# Altium footprint library 7.接插件封装.PcbLib: 201 footprints (part 12 of 13)
Each footprint in its own frame and in the unit in brackets; x right, y up, seen from the top. Pads: shape width x height; smd on the part's side, far side on the other; paste and mask are expansions set on the pad; w line width, h text height; cw(c..) or ccw(c..) is an arc to the next point about the centre after c.
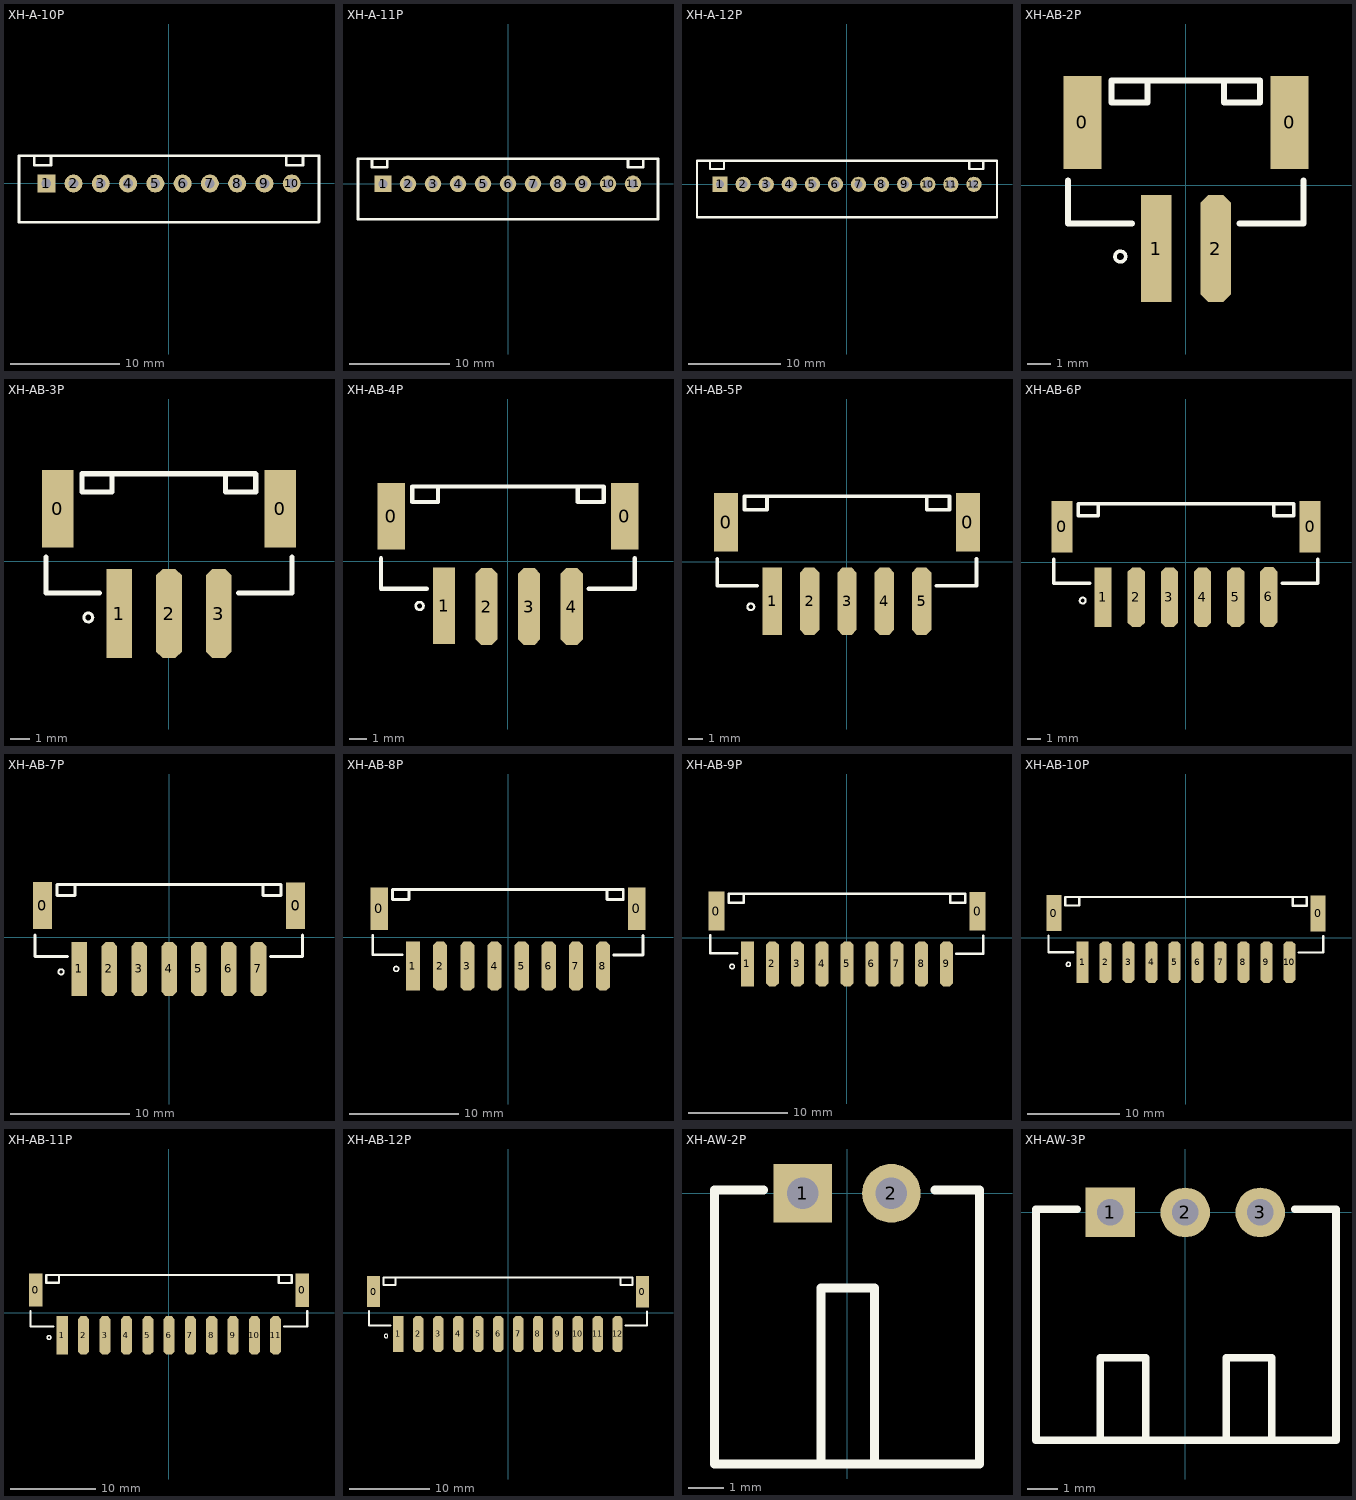
[diagram p11: the footprints below, top view; thin cyan lines are the x and y axes]

## XH-A-10P [mil]
height 275.59
pads (10):
  rect 65x65 hole 35: 1(-442.91,0)
  round 65 hole 35: 2(-344.49,0) 3(-246.06,0) 4(-147.64,0) 5(-49.21,0) 6(49.21,0) 7(147.64,0) 8(246.06,0) 9(344.49,0) 10(442.91,0)
Top Overlay:
  lines w10: -486.18,96.18 -486.18,65.31 -426.18,65.31 -426.18,96.18 ; 423.39,96.18 423.39,65.31 483.39,65.31 483.39,96.18 ; 541.21,100 -541.34,100 -541.34,-140 540.21,-140 541.46,-138.75 541.46,100

## XH-A-11P [mil]
height 275.59
pads (11):
  rect 65x65 hole 35: 1(-492.13,0)
  round 65 hole 35: 2(-393.7,0) 3(-295.28,0) 4(-196.85,0) 5(-98.43,0) 6(0,0) 7(98.43,0) 8(196.85,0) 9(295.28,0) 10(393.7,0) 11(492.13,0)
Top Overlay:
  lines w10: -535.39,96.18 -535.39,65.31 -475.39,65.31 -475.39,96.18 ; 472.48,96.18 472.48,65.31 532.48,65.31 532.48,96.18 ; -590.55,-140 590.55,-140 590.55,100 -590.55,100 -590.55,-140

## XH-A-12P [mil]
height 275.59
pads (12):
  rect 65x65 hole 35: 1(-541.34,0)
  round 65 hole 35: 2(-442.91,0) 3(-344.49,0) 4(-246.06,0) 5(-147.64,0) 6(-49.21,0) 7(49.21,0) 8(147.64,0) 9(246.06,0) 10(344.49,0) 11(442.91,0) 12(541.34,0)
Top Overlay:
  lines w10: -584.61,96.18 -584.61,65.31 -524.61,65.31 -524.61,96.18 ; 521.69,96.18 521.69,65.31 581.69,65.31 581.69,96.18 ; -639.76,-140 639.79,-140 639.79,100 -639.76,100 -639.76,-140

## XH-AB-2P [mm]
height 6
pads (4):
  rect 1.6x3.9 smd: 0(-4.35,2.65) 0(4.35,2.65)
  rect 1.3x4.5 smd: 1(-1.25,-2.65)
  oct 1.3x4.5 smd: 2(1.25,-2.65)
Top Overlay:
  circle w0.15: c-2.759,-2.987 r0.224
  lines w0.254: -4.95,0.2 -4.95,-1.6 -2.259,-1.6 ; -1.609,4.391 -1.609,3.491 -3.125,3.491 -3.125,4.4 3.107,4.4 3.116,4.391 3.116,3.491 1.6,3.491 1.6,4.4 ; 2.241,-1.6 4.932,-1.6 4.932,0.2

## XH-AB-3P [mm]
height 6
pads (5):
  rect 1.6x3.9 smd: 0(-5.6,2.642) 0(5.6,2.642)
  rect 1.3x4.5 smd: 1(-2.5,-2.642)
  oct 1.3x4.5 smd: 2(0,-2.642) 3(2.5,-2.642)
Top Overlay:
  circle w0.15: c-4.06,-2.843 r0.224
  lines w0.254: -6.2,0.192 -6.2,-1.608 -3.509,-1.608 ; -2.859,4.383 -2.859,3.483 -4.375,3.483 -4.375,4.392 4.357,4.392 4.366,4.383 4.366,3.483 2.85,3.483 2.85,4.392 ; 3.491,-1.608 6.182,-1.608 6.182,0.192

## XH-AB-4P [mm]
height 6
pads (6):
  rect 1.6x3.9 smd: 0(-6.85,2.646) 0(6.85,2.646)
  rect 1.3x4.5 smd: 1(-3.75,-2.603)
  oct 1.3x4.5 smd: 2(-1.259,-2.646) 3(1.241,-2.646) 4(3.741,-2.646)
Top Overlay:
  circle w0.15: c-5.183,-2.61 r0.224
  lines w0.254: -7.45,0.196 -7.45,-1.604 -4.759,-1.604 ; -4.109,4.387 -4.109,3.487 -5.625,3.487 -5.625,4.396 5.6,4.396 ; 4.1,4.396 4.1,3.487 5.616,3.487 5.616,4.387 5.607,4.396 ; 4.741,-1.604 7.432,-1.604 7.432,0.196

## XH-AB-5P [mm]
height 6
pads (7):
  rect 1.6x3.9 smd: 0(-8.1,2.642) 0(8.1,2.642)
  rect 1.3x4.5 smd: 1(-5,-2.642)
  oct 1.3x4.5 smd: 2(-2.5,-2.642) 3(0,-2.642) 4(2.5,-2.642) 5(5,-2.642)
Top Overlay:
  circle w0.15: c-6.445,-3.016 r0.224
  lines w0.254: -8.7,0.192 -8.7,-1.608 -6.009,-1.608 ; -5.359,4.383 -5.359,3.483 -6.875,3.483 -6.875,4.392 6.857,4.392 ; 5.35,4.392 5.35,3.483 6.866,3.483 6.866,4.383 ; 5.991,-1.608 8.682,-1.608 8.682,0.192 ; 6.857,4.392 6.857,4.392

## XH-AB-6P [mm]
height 6
pads (8):
  rect 1.6x3.9 smd: 0(-9.35,2.65) 0(9.35,2.65)
  rect 1.3x4.5 smd: 1(-6.25,-2.65)
  oct 1.3x4.5 smd: 2(-3.75,-2.65) 3(-1.25,-2.65) 4(1.25,-2.65) 5(3.75,-2.65) 6(6.239,-2.633)
Top Overlay:
  circle w0.15: c-7.784,-2.902 r0.224
  lines w0.254: -9.95,0.2 -9.95,-1.6 -7.259,-1.6 ; -6.609,4.391 -6.609,3.491 -8.125,3.491 -8.125,4.4 8.1,4.4 ; 6.6,4.4 6.6,3.491 8.116,3.491 8.116,4.391 ; 7.241,-1.6 9.932,-1.6 9.932,0.2 ; 8.107,4.4 8.107,4.4

## XH-AB-7P [mm]
pads (9):
  rect 1.6x3.9 smd: 0(-10.595,2.65) 0(10.595,2.633)
  rect 1.3x4.5 smd: 1(-7.495,-2.65)
  oct 1.3x4.5 smd: 2(-4.995,-2.65) 3(-2.495,-2.65) 4(0.005,-2.65) 5(2.505,-2.65) 6(4.995,-2.65) 7(7.484,-2.65)
Top Overlay:
  circle w0.15: c-9.029,-2.902 r0.224
  lines w0.254: -11.195,0.2 -11.195,-1.6 -8.503,-1.6 ; -7.854,4.391 -7.854,3.491 -9.37,3.491 -9.37,4.4 9.361,4.4 ; 7.845,4.383 7.845,3.475 9.361,3.475 9.361,4.375 ; 8.486,-1.617 11.177,-1.617 11.177,0.183 ; 9.352,4.383 9.352,4.383

## XH-AB-8P [mm]
pads (10):
  rect 1.6x3.9 smd: 0(-11.839,2.65) 0(11.839,2.633)
  rect 1.3x4.5 smd: 1(-8.739,-2.65)
  oct 1.3x4.5 smd: 2(-6.239,-2.65) 3(-3.739,-2.65) 4(-1.239,-2.65) 5(1.261,-2.65) 6(3.75,-2.65) 7(6.239,-2.65) 8(8.728,-2.65)
Top Overlay:
  circle w0.15: c-10.274,-2.902 r0.224
  lines w0.254: -12.439,0.2 -12.439,-1.6 -9.748,-1.6 ; -9.098,4.391 -9.098,3.491 -10.614,3.491 -10.614,4.4 10.605,4.4 ; 9.089,4.383 9.089,3.475 10.605,3.475 10.605,4.375 ; 9.73,-1.617 12.421,-1.617 12.421,0.183 ; 10.597,4.383 10.597,4.383

## XH-AB-9P [mm]
pads (11):
  rect 1.6x3.9 smd: 0(-13.084,2.65) 0(13.084,2.633)
  rect 1.3x4.5 smd: 1(-9.984,-2.65)
  oct 1.3x4.5 smd: 2(-7.484,-2.65) 3(-4.984,-2.65) 4(-2.484,-2.65) 5(0.016,-2.65) 6(2.505,-2.65) 7(4.995,-2.65) 8(7.484,-2.65) 9(9.973,-2.65)
Top Overlay:
  circle w0.15: c-11.518,-2.902 r0.224
  lines w0.254: -13.684,0.2 -13.684,-1.6 -10.993,-1.6 ; -10.343,4.391 -10.343,3.491 -11.859,3.491 -11.859,4.4 11.85,4.4 ; 10.334,4.383 10.334,3.475 11.85,3.475 11.85,4.375 ; 10.975,-1.617 13.666,-1.617 13.666,0.183 ; 11.841,4.383 11.841,4.383

## XH-AB-10P [mm]
pads (12):
  rect 1.6x3.9 smd: 0(-14.328,2.65) 0(14.328,2.633)
  rect 1.3x4.5 smd: 1(-11.228,-2.65)
  oct 1.3x4.5 smd: 2(-8.728,-2.65) 3(-6.228,-2.65) 4(-3.728,-2.65) 5(-1.228,-2.65) 6(1.261,-2.65) 7(3.75,-2.65) 8(6.239,-2.65) 9(8.728,-2.65) 10(11.218,-2.65)
Top Overlay:
  circle w0.15: c-12.763,-2.902 r0.224
  lines w0.254: -14.928,0.2 -14.928,-1.6 -12.237,-1.6 ; -11.587,4.391 -11.587,3.491 -13.103,3.491 -13.103,4.4 13.095,4.4 ; 11.578,4.383 11.578,3.475 13.094,3.475 13.094,4.375 ; 12.22,-1.617 14.911,-1.617 14.911,0.183 ; 13.086,4.383 13.086,4.383

## XH-AB-11P [mm]
pads (13):
  rect 1.6x3.9 smd: 0(-15.573,2.65) 0(15.573,2.633)
  rect 1.3x4.5 smd: 1(-12.473,-2.65)
  oct 1.3x4.5 smd: 2(-9.973,-2.65) 3(-7.473,-2.65) 4(-4.973,-2.65) 5(-2.473,-2.65) 6(0.016,-2.65) 7(2.505,-2.65) 8(4.995,-2.65) 9(7.484,-2.65) 10(9.973,-2.65) 11(12.462,-2.65)
Top Overlay:
  circle w0.15: c-14.007,-2.902 r0.224
  lines w0.254: -16.173,0.2 -16.173,-1.6 -13.482,-1.6 ; -12.832,4.391 -12.832,3.491 -14.348,3.491 -14.348,4.4 14.339,4.4 ; 12.823,4.383 12.823,3.475 14.339,3.475 14.339,4.375 ; 13.464,-1.617 16.155,-1.617 16.155,0.183 ; 14.33,4.383 14.33,4.383

## XH-AB-12P [mm]
pads (14):
  rect 1.6x3.9 smd: 0(-16.818,2.65) 0(16.818,2.633)
  rect 1.3x4.5 smd: 1(-13.718,-2.65)
  oct 1.3x4.5 smd: 2(-11.218,-2.65) 3(-8.718,-2.65) 4(-6.218,-2.65) 5(-3.718,-2.65) 6(-1.228,-2.65) 7(1.261,-2.65) 8(3.75,-2.65) 9(6.239,-2.65) 10(8.728,-2.65) 11(11.218,-2.65) 12(13.707,-2.65)
Top Overlay:
  circle w0.15: c-15.252,-2.902 r0.224
  lines w0.254: -17.418,0.2 -17.418,-1.6 -14.726,-1.6 ; -14.077,4.391 -14.077,3.491 -15.593,3.491 -15.593,4.4 15.583,4.4 ; 14.068,4.383 14.068,3.475 15.584,3.475 15.584,4.375 ; 14.709,-1.617 17.4,-1.617 17.4,0.183 ; 15.575,4.383 15.575,4.383

## XH-AW-2P [mil]
height 275.59
pads (2):
  rect 65x65 hole 35: 1(-49.21,0)
  round 65 hole 35: 2(49.21,0)
Top Overlay:
  lines w10: -92.52,3.94 -146.65,3.94 -146.65,-300 146.65,-300 146.65,3.94 97.44,3.94 ; -29,-299 -29,-105 30.68,-105 30.68,-298.66

## XH-AW-3P [mil]
pads (3):
  rect 65x65 hole 35: 1(-98.43,0)
  round 65 hole 35: 2(0,0) 3(98.43,0)
Top Overlay:
  lines w10: -141.73,3.94 -195.87,3.94 -195.87,-299.21 197.83,-299.21 197.83,3.94 143.7,3.94 ; 53.76,-298.21 53.76,-191 113.44,-191 113.44,-298.55 ; -111.47,-299.13 -111.47,-191 -51.79,-191 -51.79,-298.79 -52.13,-299.13 -111.47,-299.13